# Altium footprint library Capacitor.PcbLib: 6 footprints
Each footprint in its own frame and in the unit in brackets; x right, y up, seen from the top. Pads: shape width x height; smd on the part's side, far side on the other; paste and mask are expansions set on the pad; w line width, h text height; cw(c..) or ccw(c..) is an arc to the next point about the centre after c.
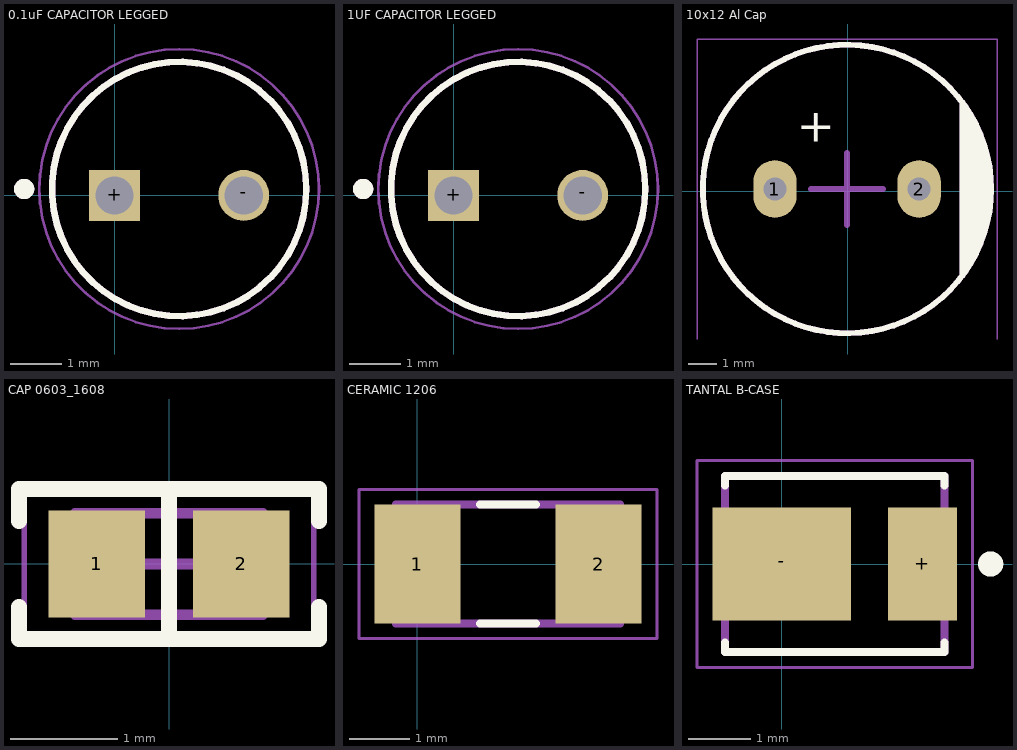
[diagram p0: the footprints below, top view; thin cyan lines are the x and y axes]

## 0.1uF CAPACITOR LEGGED [mm]
pads (2):
  rect 1x1 hole 0.75: +(0,0)
  round 1 hole 0.75: -(2.54,0)
Top Overlay:
  circle w0.127: c1.27,0.127 r2.5
  circle w0.2: c-1.778,0.127 r0.1
Mechanical 13:
  circle w0.127: c1.27,0.127 r2.5
  circle w0.2: c-1.778,0.127 r0.1
Mechanical 15:
  circle w0.05: c1.27,0.127 r2.75
3D body "0.1uF (1).SLDPRT": height 8.1, standoff -2.5, extent -0.78,-2.032 3.32,2.068

## 1UF CAPACITOR LEGGED [mm]
pads (2):
  rect 1x1 hole 0.75: +(0,0)
  round 1 hole 0.75: -(2.54,0)
Top Overlay:
  circle w0.2: c-1.778,0.127 r0.1
  circle w0.127: c1.27,0.127 r2.5
Mechanical 13:
  circle w0.2: c-1.778,0.127 r0.1
  circle w0.127: c1.27,0.127 r2.5
Mechanical 15:
  circle w0.05: c1.27,0.127 r2.75
3D body "1uF 50V electr -5x11mm -P.diameter 2.5mm.stp": height 11.5, standoff -3.07, extent -1.19,-2.54 3.81,2.457

## 10x12 Al Cap [mm]
pads (2):
  oval 1.5x2 hole 0.8: 1(-2.53,0.078) 2(2.47,0.078)
Top Overlay:
  circle w0.2: c-0.03,0.078 r5
  region: 3.97,3.078 4.47,2.328 4.97,0.828 4.97,-0.672 4.72,-1.422 4.22,-2.672 3.97,-2.922
  lines w0.2: 3.97,-2.922 3.97,3.078
  text "+" at -1.78,1.328 h2
Mechanical 13:
  circle w0.2: c-0.03,0.078 r5
  lines w0.2: 3.97,-2.922 3.97,3.078
Mechanical 15:
  lines w0.05: -5.23,-5.122 -5.23,5.278 5.17,5.278 5.17,-5.122
  lines w0.2: -1.28,0.078 1.22,0.078 ; -0.03,-1.172 -0.03,1.328
3D body "CAP ALTH D-10MM L-5.0MM H-12.5MM.STEP": height 12.7, standoff -3, extent -5.03,-4.921 4.97,5.077

## CAP 0603_1608 [mm] "Chip Capacitor, 2-Leads, Body 1.60x0.80mm, IPC Medium Density"
height 0.89
pads (2):
  rect 0.9x1 smd: 1(-0.675,0) 2(0.675,0)
Top Overlay:
  lines w0.15: -1.4,-0.4 -1.4,-0.7 1.4,-0.7 1.4,-0.4 ; -1.4,0.4 -1.4,0.7 1.4,0.7 1.4,0.4 ; 0,-0.7 0,0.7
Mechanical 13:
  lines w0.1: -0.875,-0.475 0.875,-0.475 0.875,0.475 -0.875,0.475 -0.875,-0.475
Mechanical 15:
  lines w0.05: -1.35,-0.75 1.35,-0.75 1.35,0.75 -1.35,0.75 -1.35,-0.75
  lines w0.1: -0.475,0 0.475,0 ; 0,-0.475 0,0.475
3D body "0603 cap.STEP": height 0.82, standoff 0, extent -0.8,-0.412 0.8,0.412

## CERAMIC 1206 [mm]
pads (2):
  rect 1.42x1.96 smd: 1(0,0) 2(2.984,0)
Top Overlay:
  lines w0.127: 1.032,-0.98 1.952,-0.98 ; 1.032,0.98 1.952,0.98
Mechanical 13:
  lines w0.127: -0.358,-0.98 3.342,-0.98 3.342,0.98 -0.358,0.98 -0.358,-0.98
Mechanical 15:
  lines w0.05: -0.962,-1.229 3.946,-1.229 3.946,1.229 -0.962,1.229 -0.962,-1.229
3D body "1206CAP.step": height 1, standoff 0, extent -0.076,-0.8 3.124,0.8

## TANTAL B-CASE [mm]
pads (2):
  rect 1.1x1.8 smd: +(2.24,0)
  rect 2.2x1.8 smd: -(0,0)
Top Overlay:
  circle w0.2: c3.327,0 r0.1
  lines w0.127: -0.905,-1.25 -0.905,-1.4 2.595,-1.4 2.595,-1.25 ; -0.905,1.25 -0.905,1.4 2.595,1.4 2.595,1.25
Mechanical 13:
  lines w0.127: -0.905,-1.4 2.595,-1.4 2.595,1.4 -0.905,1.4 -0.905,-1.4
Mechanical 15:
  lines w0.05: -1.35,-1.65 3.04,-1.65 3.04,1.65 -1.35,1.65 -1.35,-1.65
3D body "t494b106k020at.stp": height 2.11, standoff 0.01, extent -1.008,-1.476 2.692,1.524